# Altium integrated library B3B-PH-K-S.IntLib: 1 symbol
Pins are listed as number, name and electrical type; pins without a type are passive.

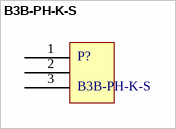
[diagram p0: symbol B3B-PH-K-S]

## B3B-PH-K-S
designator P?
JST connector, 3-pin, 2mm pitch
footprint B3B-PH-K-S
pins: 1, 2, 3